# Altium footprint library MOLEX SDA-70553-7PIN.PCBLIB: 1 footprints
Each footprint in its own frame and in the unit in brackets; x right, y up, seen from the top. Pads: shape width x height; smd on the part's side, far side on the other; paste and mask are expansions set on the pad; w line width, h text height; cw(c..) or ccw(c..) is an arc to the next point about the centre after c.
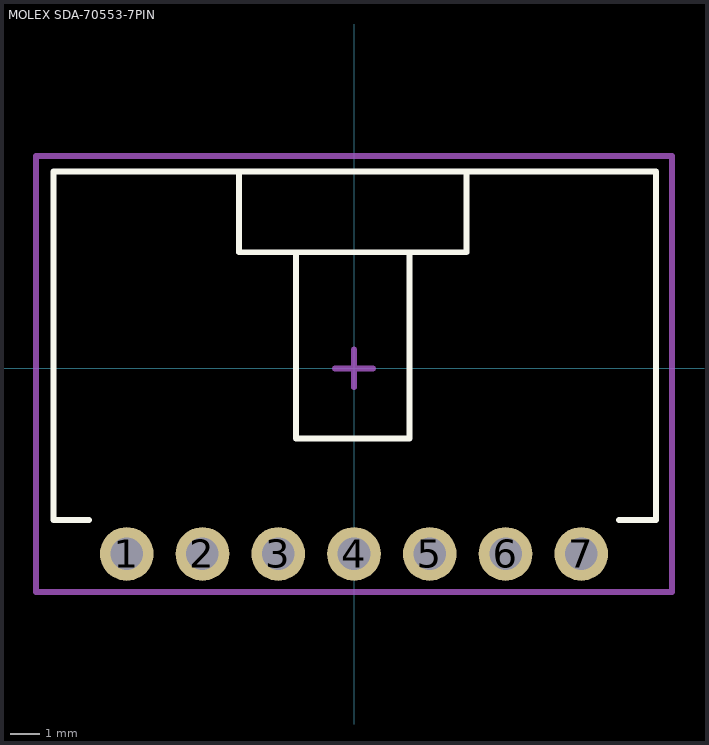
[diagram p0: the footprint, top view; thin cyan lines are the x and y axes]

## MOLEX SDA-70553-7PIN [mm] "SL Right angle header with latch, 0.100 centres, SDA-70553"
height 6.99
pads (7):
  round 1.8 hole 1.09: 1(-7.62,-6.223) 2(-5.08,-6.223) 3(-2.54,-6.223) 4(0,-6.223) 5(2.54,-6.223) 6(5.08,-6.223) 7(7.62,-6.223)
Top Overlay:
  lines w0.2: -8.89,-5.08 -10.073,-5.08 -10.073,-4.973 -10.073,6.604 10.12,6.604 10.12,-4.973 10.12,-5.08 8.89,-5.08 ; -3.85,6.55 -3.85,3.892 3.77,3.892 3.77,6.55 ; -1.945,3.892 -1.945,-2.346 1.865,-2.346 1.865,3.892
Mechanical 15:
  lines w0.2: -0.635,0 0.635,0 ; 0,-0.635 0,0.635 ; -10.668,-7.493 10.668,-7.493 10.668,7.112 -10.668,7.112 -10.668,-7.493
3D body "705530006.STEP": height 6.96, standoff -3.32, extent -10.12,-6.973 10.2,6.616